# Altium footprint library MF-LEDS.PcbLib: 3 footprints
Each footprint in its own frame and in the unit in brackets; x right, y up, seen from the top. Pads: shape width x height; smd on the part's side, far side on the other; paste and mask are expansions set on the pad; w line width, h text height; cw(c..) or ccw(c..) is an arc to the next point about the centre after c.
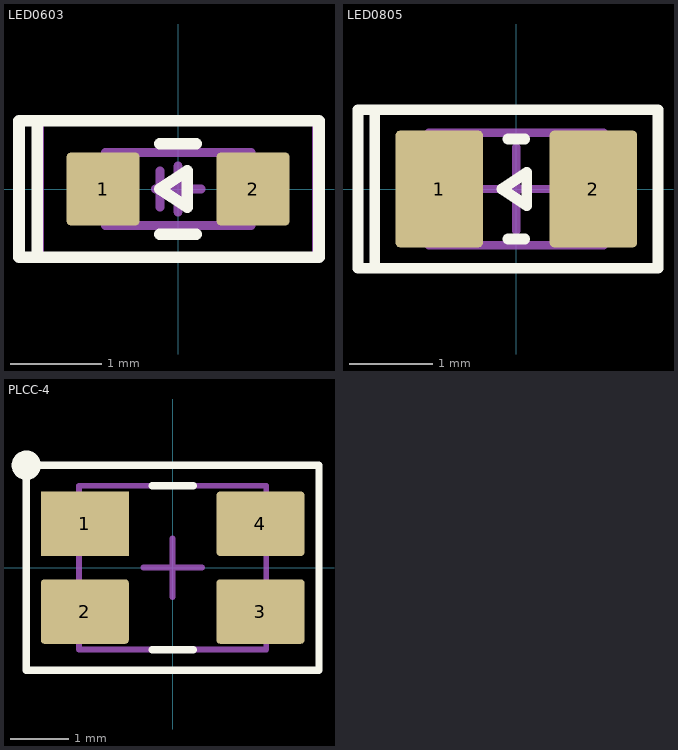
[diagram p0: the footprints below, top view; thin cyan lines are the x and y axes]

## LED0603 [mm] "0603 (1608 Metric)"
height 0.75
pads (2):
  rrect10% 0.8x0.8 smd mask+0.07: 1(-0.825,0) 2(0.825,0)
Top Overlay:
  lines w0.127: -0.2,-0.5 0.2,-0.5 ; -0.2,0.5 0.2,0.5 ; -1.55,-0.75 1.55,-0.75 1.55,0.75 -1.55,0.75 ; -1.55,-0.75 -1.55,0.75 ; -1.55,-0.75 -1.75,-0.75 -1.75,0.75 -1.55,0.75 ; -0.2,0 0.1,0.2 0.1,-0.2 -0.2,0
Top Assembly:
  lines w0.1: -0.2,-0.2 -0.2,0.2 ; -0.8,-0.4 -0.8,0.4 0.8,0.4 0.8,-0.4 -0.8,-0.4 ; -0.2,0 0.1,-0.2 0.1,0.2 -0.2,0
Top Courtyard:
  lines w0.05: -1.5,-0.75 -1.5,0.75 1.5,0.75 1.5,-0.75 -1.5,-0.75
  lines w0.1: -0.25,0 0.25,0 ; 0,-0.25 0,0.25
3D body "APT1608.STEP": height 0.76, standoff 0.01, extent -0.81,-0.4 0.801,0.4

## LED0805 [mm] "Chip Diode, 2-Leads, Body 2.00x1.25mm, IPC Medium Density"
height 0.8
pads (2):
  rrect10% 1.05x1.4 smd: 1(-0.925,0) 2(0.925,0)
Top Overlay:
  lines w0.127: -1.7,-0.95 -1.7,0.95 ; -0.1,-0.6 0.1,-0.6 ; -0.1,0.6 0.1,0.6 ; -1.7,0.95 1.7,0.95 1.7,-0.95 -1.675,-0.95 -1.9,-0.95 -1.9,0.95 -1.7,0.95 ; -0.175,0 0.125,0.2 0.125,-0.2 -0.175,0
Top Assembly:
  lines w0.1: -1.05,-0.675 -1.05,0.675 1.05,0.675 1.05,-0.675 -1.05,-0.675
Top Courtyard:
  lines w0.05: -1.7,-0.95 -1.7,0.95 1.7,0.95 1.7,-0.95 -1.7,-0.95
  lines w0.1: -0.5,0 0.5,0 ; 0,-0.5 0,0.5
3D body "Diode_Lite-On_LTST-C171KRKT_eec.STEP": height 0.9, standoff 0, extent -1,-0.625 1,0.625

## PLCC-4 [mm] "3.2mm x 2.8mm"
height 1.9
pads (4):
  rect 1.5x1.1 smd paste+0 mask+0.05: 1(-1.5,0.75)
  rrect10% 1.5x1.1 smd paste+0 mask+0.05: 2(-1.5,-0.75) 3(1.5,-0.75) 4(1.5,0.75)
Top Overlay:
  circle w0.25: c-2.5,1.75 r0.125
  lines w0.127: -0.35,-1.4 0.35,-1.4 ; -0.35,1.4 0.35,1.4 ; -2.5,-1.75 -2.5,1.75 2.5,1.75 2.5,-1.75 -2.5,-1.75
Top Assembly:
  lines w0.1: -1.6,-1.4 1.6,-1.4 1.6,1.4 -1.6,1.4 -1.6,-1.4
Top Courtyard:
  lines w0.05: -2.5,-1.75 -2.5,1.75 2.5,1.75 2.5,-1.75 -2.5,-1.75
  lines w0.1: -0.5,0 0.5,0 ; 0,-0.5 0,0.5
3D body "Diode_Cree_CLV1L-FKB-CHMMQEHBB7673673_eec.STEP": height 1.9, standoff 0, extent -1.75,-1.403 1.75,1.397